# Altium schematic symbol library agilent-technologies.SCHLIB: 2 symbols
Pins are listed as number, name and electrical type; pins without a type are passive.

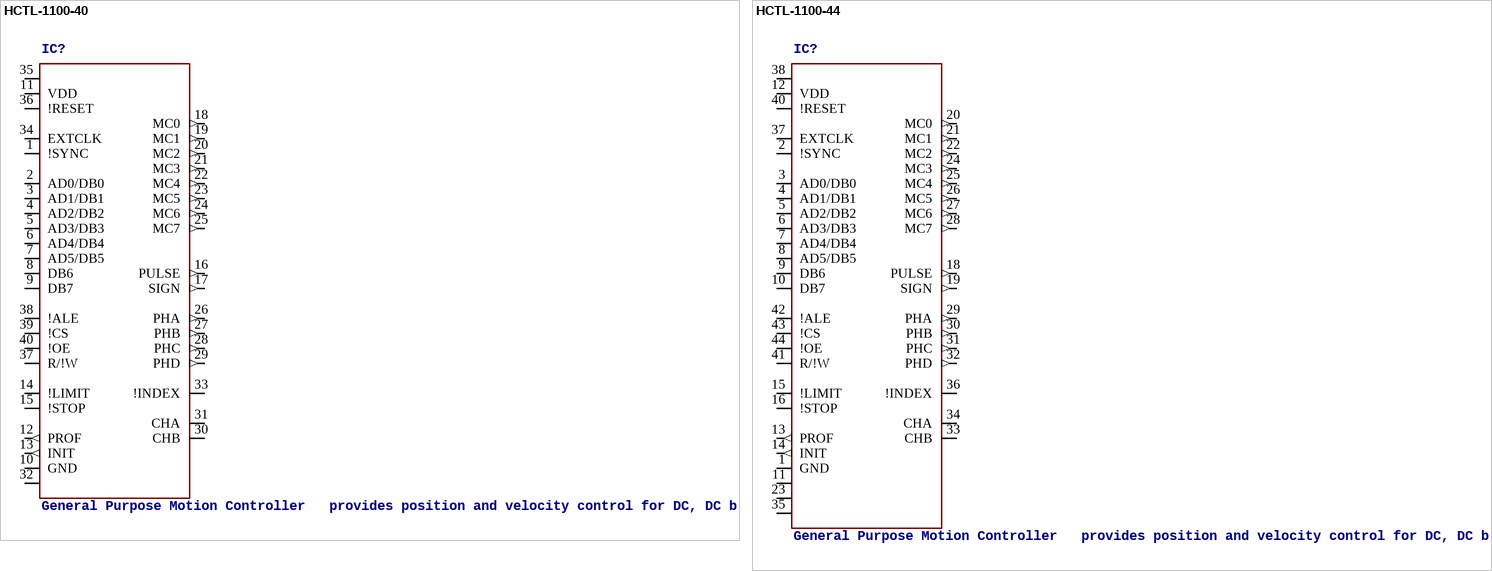
[diagram p0: symbols HCTL-1100-40 to HCTL-1100-44]

## HCTL-1100-40
designator IC?, comment General Purpose Motion Controller   provides position and velocity control for DC, DC brushless and stepper motors. Source: http://www.avagotech.com/pc/downloadDocument.do?id=4609
MF: AGILENT TECHNOLOGIES; MPN: HCTL-1100; OC_FARNELL: 407460; OC_NEWARK: 17M9298
footprint DIL40
pins: 1 !SYNC, 2 AD0/DB0, 3 AD1/DB1, 4 AD2/DB2, 5 AD3/DB3, 6 AD4/DB4, 7 AD5/DB5, 8 DB6, 9 DB7, 10 GND (power), 11 VDD (power), 12 PROF (out), 13 INIT (out), 14 !LIMIT, 15 !STOP, 16 PULSE (out), 17 SIGN (out), 18 MC0 (out), 19 MC1 (out), 20 MC2 (out), 21 MC3 (out), 22 MC4 (out), 23 MC5 (out), 24 MC6 (out), 25 MC7 (out), 26 PHA (out), 27 PHB (out), 28 PHC (out), 29 PHD (out), 30 CHB, 31 CHA, 32 GND@1 (power), 33 !INDEX, 34 EXTCLK, 35 VDD@1 (power), 36 !RESET, 37 R/!W, 38 !ALE, 39 !CS, 40 !OE

## HCTL-1100-44
designator IC?, comment General Purpose Motion Controller   provides position and velocity control for DC, DC brushless and stepper motors. Source: http://www.avagotech.com/pc/downloadDocument.do?id=4609
MPN: HCTL-1100#PLC; MF: AGILENT TECHNOLOGIES; OC_FARNELL: unknown; OC_NEWARK: 17M9299
footprint PLCC44
pins: 1 GND (power), 2 !SYNC, 3 AD0/DB0, 4 AD1/DB1, 5 AD2/DB2, 6 AD3/DB3, 7 AD4/DB4, 8 AD5/DB5, 9 DB6, 10 DB7, 11 GND@1 (power), 12 VDD (power), 13 PROF (out), 14 INIT (out), 15 !LIMIT, 16 !STOP, 18 PULSE (out), 19 SIGN (out), 20 MC0 (out), 21 MC1 (out), 22 MC2 (out), 23 GND@2 (power), 24 MC3 (out), 25 MC4 (out), 26 MC5 (out), 27 MC6 (out), 28 MC7 (out), 29 PHA (out), 30 PHB (out), 31 PHC (out), 32 PHD (out), 33 CHB, 34 CHA, 35 GND@3 (power), 36 !INDEX, 37 EXTCLK, 38 VDD@1 (power), 40 !RESET, 41 R/!W, 42 !ALE, 43 !CS, 44 !OE